# Altium footprint library WE WR_COM 692221030100.PcbLib: 1 footprints
Each footprint in its own frame and in the unit in brackets; x right, y up, seen from the top. Pads: shape width x height; smd on the part's side, far side on the other; paste and mask are expansions set on the pad; w line width, h text height; cw(c..) or ccw(c..) is an arc to the next point about the centre after c.
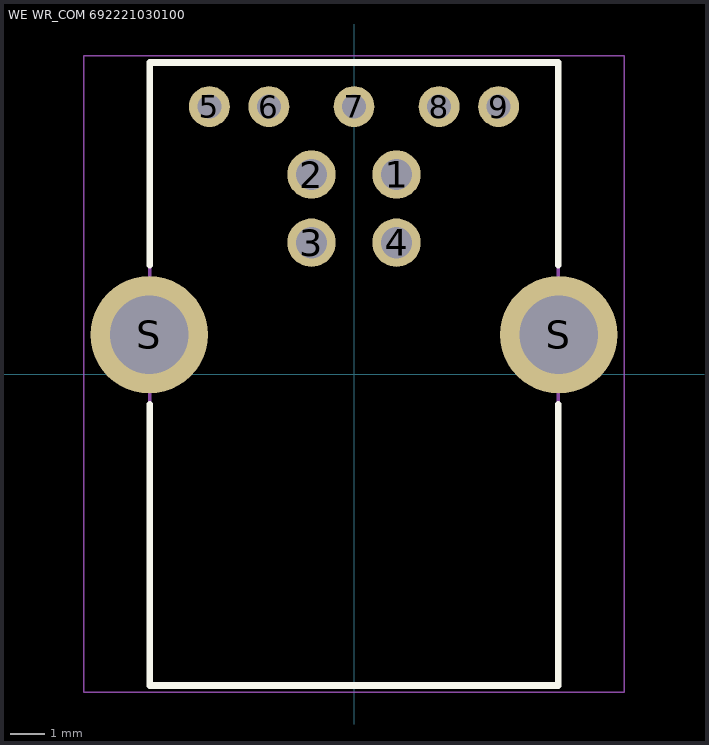
[diagram p0: the footprint, top view; thin cyan lines are the x and y axes]

## WE WR_COM 692221030100 [mm] "USB 3.0 Type B Horizontal"
height 12.9
pads (11):
  round 1.42 hole 0.92: 1(1.25,5.86) 2(-1.25,5.86) 3(-1.25,3.86) 4(1.25,3.86)
  round 1.2 hole 0.7: 5(-4.25,7.86) 6(-2.5,7.86) 7(0,7.86) 8(2.5,7.86) 9(4.25,7.86)
  round 3.45 hole 2.3: S(-6.02,1.15) S(6.02,1.15)
Top Overlay:
  lines w0.2: -6,-0.9 -6,-9.15 6,-9.15 6,-0.9 ; -6,3.2 -6,9.15 6,9.15 6,3.2
Top Assembly:
  lines w0.1: -6,-9.15 6,-9.15 6,9.15 -6,9.15 -6,-9.15
Top Courtyard:
  lines w0.05: -7.945,-9.35 -7.945,9.35 7.945,9.35 7.945,-9.35 -7.945,-9.35
Top Designator:
  text ".Designator" at -7.498,-0.5 h1.5
3D body "692221030100.stp": height 12.95, standoff -3.18, extent -7.2,-9.15 7.2,9.15